# EAGLE library part 1324ПЦ4 (library microwave)
АЕЯР.431000.760-09 ТУ 1324ПЦ4У - делитель частоты с управляемым коэффициентом деления на 2, 4, 8, 16 в диапазоне частот от 0,2 ГГц до 2,5 ГГц. Предельно допустимые и предельные режимы эксплуатации микросхемы: Наименование параметра, единица измерения Предельно допустимый режим Предельный режим 1324ПЦ4У 1324ПЦ5У 1324ПЦ4У 1324ПЦ5У не менее не более не менее не более не менее не более не менее не более Напряжение питания, В 4,7 5,3 4,7 5,3 4,5 5,5 4,5 5,5 Максимальная входная мощность, дБм -5 5 -5 5 - 10 - 10 Входное напряжение высокого уровня цифровых входов, В 2,4 5,0 2,0 3,0 - 5,5 - 3,2 Входное напряжение низкого уровня цифровых входов, В 0 0,4 0 0,4 0 - 0 - Рассеиваемая мощность, мВт - 470 - 530 - 550 - 610 Таблица истинности при различных значениях коэффициента деления микросхемы: Коэффициент деления входной частоты, Кд Логическое уровни на управляющих выводах. s0 s1 2 0 0 4 0 1 8 1 0 16 1 1 «1» – входные напряжения высокого уровня: U1вх = 5 В, для 1324ПЦ4У; U1вх = 3 В, для 1324ПЦ5У. Значение логического уровня «0»: U0вх = 0 В для 1324ПЦ4У и 1324ПЦ5У Производитель: ОАО «НПП «ПУЛЬСАР», г. Москва.
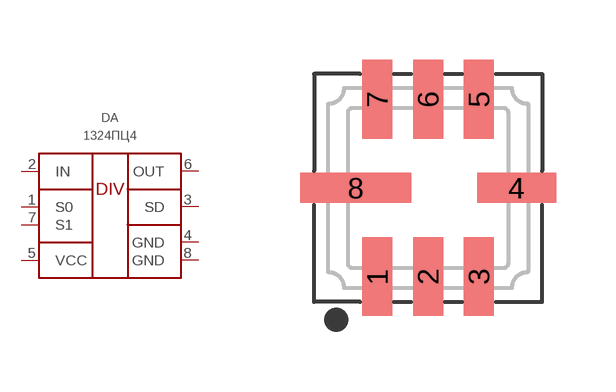
[diagram p18: symbol with the pads of 5140.8-АН3; footprint 5140.8-АН3]

Designator prefix DA

## 1324ПЦ4У  [5140.8-АН3]
1  S0  in
2  IN  in
3  SD  in
4  GND  pwr
5  VCC  pwr
6  OUT  out
7  S1  in
8  GND  pwr

## Footprint 5140.8-АН3 (pad centres in mm)
smd 0.75 x 1.97: 1 -1.27,-2.215; 2 0,-2.215; 3 1.27,-2.215; 5 1.27,2.215; 6 0,2.215; 7 -1.27,2.215
smd 1.97 x 0.75: 4 2.215,0
smd 2.78 x 0.75: 8 -1.81,0